# Altium footprint library ICM6208.PcbLib: 1 footprints
Each footprint in its own frame and in the unit in brackets; x right, y up, seen from the top. Pads: shape width x height; smd on the part's side, far side on the other; paste and mask are expansions set on the pad; w line width, h text height; cw(c..) or ccw(c..) is an arc to the next point about the centre after c.
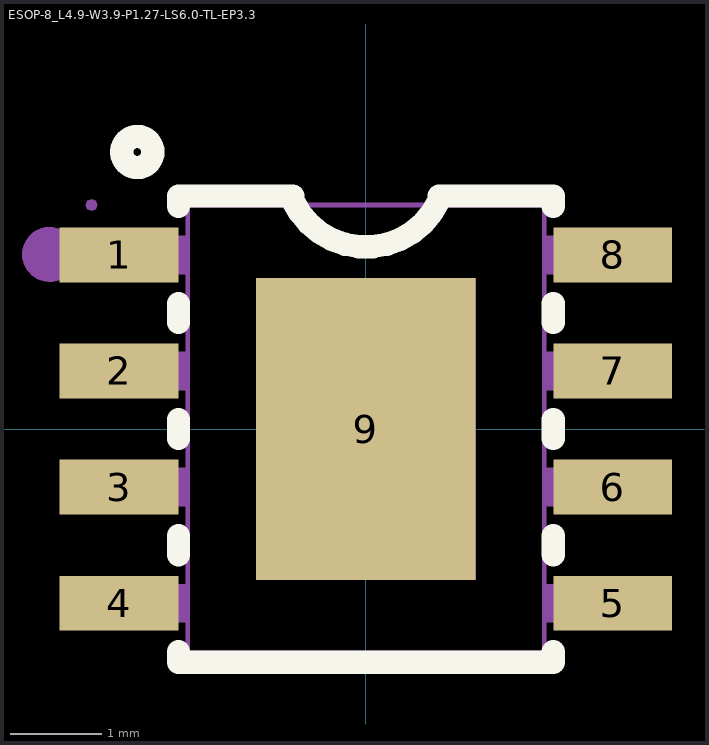
[diagram p0: the footprint, top view; thin cyan lines are the x and y axes]

## ESOP-8_L4.9-W3.9-P1.27-LS6.0-TL-EP3.3 [mm]
pads (9):
  rect 1.3x0.6 smd: 1(-2.7,1.905) 2(-2.7,0.635) 3(-2.7,-0.635) 4(-2.7,-1.905) 5(2.7,-1.905) 6(2.7,-0.635) 7(2.7,0.635) 8(2.7,1.905)
  rect 2.4x3.3 smd: 9(0,0)
Top Overlay:
  circle w0.254: c-2.5,3.03 r0.17
  lines w0.254: -2.05,-2.436 -2.05,-2.55 2.05,-2.55 2.05,-2.436 ; -2.05,-1.374 -2.05,-1.166 ; -2.05,-0.104 -2.05,0.104 ; -2.05,1.166 -2.05,1.374 ; -2.05,2.436 -2.05,2.55 -0.8,2.55 ; -0.8,2.5 ccw(c0,2.875) 0.8,2.5 ; 0.8,2.55 2.05,2.55 2.05,2.436 ; 2.05,-1.374 2.05,-1.166 ; 2.05,-0.104 2.05,0.104 ; 2.05,1.166 2.05,1.374
Mechanical 6:
  circle w0.3: c-3.46,1.91 r0.15
Mechanical 15:
  region: -2.935,2.45 -2.954,2.495 -3,2.514 -3.046,2.495 -3.064,2.45 -3.046,2.405 -3,2.386 -2.954,2.405
  region: -3,2.115 -2.165,2.115 -2.165,1.695 -3,1.695
  region: -2.175,2.115 -1.94,2.115 -1.94,1.695 -2.175,1.695
  region: -3,0.845 -2.165,0.845 -2.165,0.425 -3,0.425
  region: -2.175,0.845 -1.94,0.845 -1.94,0.425 -2.175,0.425
  region: -3,-0.425 -2.165,-0.425 -2.165,-0.845 -3,-0.845
  region: -2.175,-0.425 -1.94,-0.425 -1.94,-0.845 -2.175,-0.845
  region: -3,-1.695 -2.165,-1.695 -2.165,-2.115 -3,-2.115
  region: -2.175,-1.695 -1.94,-1.695 -1.94,-2.115 -2.175,-2.115
  region: 2.165,-1.695 3,-1.695 3,-2.115 2.165,-2.115
  region: 1.94,-1.695 2.175,-1.695 2.175,-2.115 1.94,-2.115
  region: 2.165,-0.425 3,-0.425 3,-0.845 2.165,-0.845
  region: 1.94,-0.425 2.175,-0.425 2.175,-0.845 1.94,-0.845
  region: 2.165,0.845 3,0.845 3,0.425 2.165,0.425
  region: 1.94,0.845 2.175,0.845 2.175,0.425 1.94,0.425
  region: 2.165,2.115 3,2.115 3,1.695 2.165,1.695
  region: 1.94,2.115 2.175,2.115 2.175,1.695 1.94,1.695
  region: -1.2,1.65 1.2,1.65 1.2,-1.65 -1.2,-1.65
  lines w0.051: -1.95,-2.45 1.95,-2.45 1.95,2.45 -1.95,2.45 -1.95,-2.45